# EAGLE library part RFM69HW-DIP (library RFM69HW)
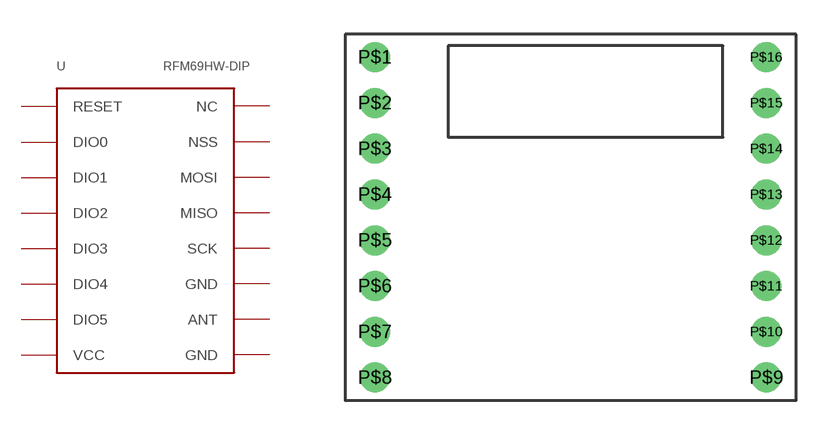
[diagram p0: symbol with the pads of RFM69HW-DIP; footprint RFM69HW-DIP]

Designator prefix -

## RFM69HW-DIP  [RFM69HW-DIP]
P$1  RESET
P$2  DIO0
P$3  DIO1
P$4  DIO2
P$5  DIO3
P$6  DIO4
P$7  DIO5
P$8  VCC
P$9  GND
P$10  ANT
P$11  GND
P$12  SCK
P$13  MISO
P$14  MOSI
P$15  NSS
P$16  NC

## Footprint RFM69HW-DIP (pad centres in mm)
RFM69HW 20dBm RF transceiver The RFM69HW is a highly integrated RF transceiver capable of operation over a wide frequency range, including the 433, 868 and 915 MHz license-free ISM (Industry Scientific and Medical) frequency bands. Its highly integrated architecture allows for a minimum of external components whilst maintaining maximum design flexibility. All major RF communication parameters are programmable and most of them can be dynamically set. The RFM69HW offers the unique advantage of programmable narrow-band and wide- band communication modes without the need to modify external components. The RFM69HW is optimized for low power consumption while offering high RF output power and channelized operation. TrueRF technology enables a low- cost external component count (elimination of the SAW filter) whilst still satisfying ETSI and FCC regulations.
drill 0.8: P$1 1.3,15; P$2 1.3,13; P$3 1.3,11; P$4 1.3,9; P$5 1.3,7; P$6 1.3,5; P$7 1.3,3; P$8 1.3,1; P$9 18.4,1; P$10 18.4,3; P$11 18.4,5; P$12 18.4,7; P$13 18.4,9; P$14 18.4,11; P$15 18.4,13; P$16 18.4,15